# EAGLE library part MILLI-GRID-24 (library con-molex)
Milli-Grid Pin Header 2.00mm (.079") Pitch
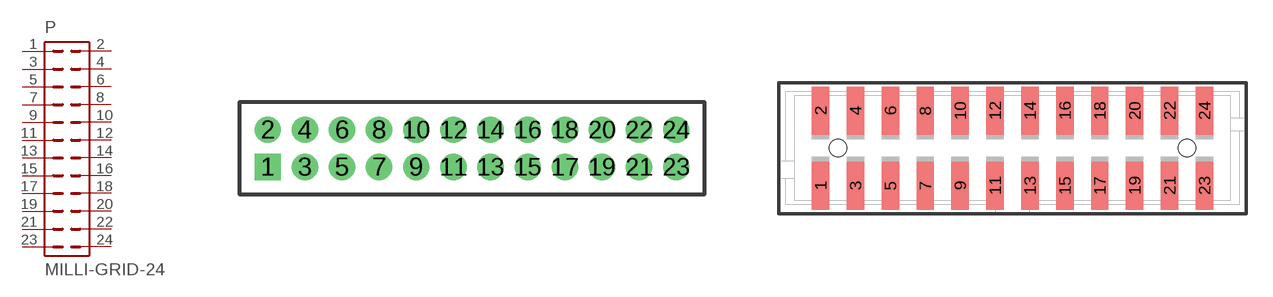
[diagram p60: symbol with the pads of 87758-24; footprints 87758-24, 87832-24]

Designator prefix P

## MILLI-GRID-24-87758  [87758-24]
1  1  pas
2  2  pas
3  3  pas
4  4  pas
5  5  pas
6  6  pas
7  7  pas
8  8  pas
9  9  pas
10  10  pas
11  11  pas
12  12  pas
13  13  pas
14  14  pas
15  15  pas
16  16  pas
17  17  pas
18  18  pas
19  19  pas
20  20  pas
21  21  pas
22  22  pas
23  23  pas
24  24  pas

## MILLI-GRID-24-87832  [87832-24]
Pads as for 87758-24

## MILLI-GRID-24-87759  [87759-24]
Pads as for 87758-24

## MILLI-GRID-24-79109  [79109-24]
Pads as for 87758-24

## MILLI-GRID-24-79107  [79107-24]
Pads as for 87758-24

## MILLI-GRID-24-87264  [87264-24]
Pads as for 87758-24

## MILLI-GRID-24-87368  [87368-24]
Pads as for 87758-24

## Footprint 87758-24 (pad centres in mm)
PCB Pin Headers 2.00mm (.079") Pitch Milli-Grid Header, Vertical
drill 0.914 square: 1 -11,-1
drill 0.914: 2 -11,1; 3 -9,-1; 4 -9,1; 5 -7,-1; 6 -7,1; 7 -5,-1; 8 -5,1; 9 -3,-1; 10 -3,1; 11 -1,-1; 12 -1,1; 13 1,-1; 14 1,1; 15 3,-1; 16 3,1; 17 5,-1; 18 5,1; 19 7,-1; 20 7,1; 21 9,-1; 22 9,1; 23 11,-1; 24 11,1

## Footprint 87832-24 (pad centres in mm)
PCB Headers 2.00mm (.079") Pitch Milli-Grid Header, Vertical, Shrouded
smd 1 x 2.75: 1 -11,-2.15; 2 -11,2.15; 3 -9,-2.15; 4 -9,2.15; 5 -7,-2.15; 6 -7,2.15; 7 -5,-2.15; 8 -5,2.15; 9 -3,-2.15; 10 -3,2.15; 11 -1,-2.15; 12 -1,2.15; 13 1,-2.15; 14 1,2.15; 15 3,-2.15; 16 3,2.15; 17 5,-2.15; 18 5,2.15; 19 7,-2.15; 20 7,2.15; 21 9,-2.15; 22 9,2.15; 23 11,-2.15; 24 11,2.15
hole 1 at -10,0
hole 1 at 10,0

## Footprint 87759-24 (pad centres in mm)
PCB Pin Headers 2.00mm (.079") Pitch Milli-Grid Header, Vertical SMD
smd 1 x 2.75: 1 -11,-2.15; 2 -11,2.15; 3 -9,-2.15; 4 -9,2.15; 5 -7,-2.15; 6 -7,2.15; 7 -5,-2.15; 8 -5,2.15; 9 -3,-2.15; 10 -3,2.15; 11 -1,-2.15; 12 -1,2.15; 13 1,-2.15; 14 1,2.15; 15 3,-2.15; 16 3,2.15; 17 5,-2.15; 18 5,2.15; 19 7,-2.15; 20 7,2.15; 21 9,-2.15; 22 9,2.15; 23 11,-2.15; 24 11,2.15
hole 1 at -10,0
hole 1 at 10,0

## Footprint 79109-24 (pad centres in mm)
Board-to-Board Receptacal 2.00mm (.079") Pitch Milli-Grid Header, Vertical, Top/Bottom Entry Mates with: 87758, 87759, 87760, 87831, 87832, 87833
smd 1.12 x 1.83: 1 -11,-2.65; 2 -11,2.65; 3 -9,-2.65; 4 -9,2.65; 5 -7,-2.65; 6 -7,2.65; 7 -5,-2.65; 8 -5,2.65; 9 -3,-2.65; 10 -3,2.65; 11 -1,-2.65; 12 -1,2.65; 13 1,-2.65; 14 1,2.65; 15 3,-2.65; 16 3,2.65; 17 5,-2.65; 18 5,2.65; 19 7,-2.65; 20 7,2.65; 21 9,-2.65; 22 9,2.65; 23 11,-2.65; 24 11,2.65
hole 0.914 at -10,0
hole 0.914 at -11,1
hole 0.914 at -11,-1
hole 0.914 at -9,-1
hole 0.914 at -9,1
hole 0.914 at -7,-1
hole 0.914 at -7,1
hole 0.914 at 10,0
hole 0.914 at -5,1
hole 0.914 at -5,-1
hole 0.914 at -3,1
hole 0.914 at -3,-1
hole 0.914 at -1,1
hole 0.914 at -1,-1
hole 0.914 at 1,1
hole 0.914 at 1,-1
hole 0.914 at 3,-1
hole 0.914 at 3,1
hole 0.914 at 5,1
hole 0.914 at 5,-1
hole 0.914 at 7,1
hole 0.914 at 7,-1
hole 0.914 at 9,1
hole 0.914 at 9,-1
hole 0.914 at 11,-1
hole 0.914 at 11,1

## Footprint 79107-24 (pad centres in mm)
Board-To-Board Receptacal 2.00mm (.079") Pitch Milli-Grid Header, Vertical, Through-Hole Mates with: 87759, 87762, 87758, 87760
drill 0.914 square: 1 -11,-1
drill 0.914: 2 -11,1; 3 -9,-1; 4 -9,1; 5 -7,-1; 6 -7,1; 7 -5,-1; 8 -5,1; 9 -3,-1; 10 -3,1; 11 -1,-1; 12 -1,1; 13 1,-1; 14 1,1; 15 3,-1; 16 3,1; 17 5,-1; 18 5,1; 19 7,-1; 20 7,1; 21 9,-1; 22 9,1; 23 11,-1; 24 11,1

## Footprint 87264-24 (pad centres in mm)
Board-To-Board Receptacal 2.00mm (.079") Pitch Milli-Grid Header, Side Entry Mates with 2mm(.079") Mill-Grid Header
drill 0.914 square: 1 -11,-2.25
drill 0.914: 2 -11,2.25; 3 -9,-2.25; 4 -9,2.25; 5 -7,-2.25; 6 -7,2.25; 7 -5,-2.25; 8 -5,2.25; 9 -3,-2.25; 10 -3,2.25; 11 -1,-2.25; 12 -1,2.25; 13 1,-2.25; 14 1,2.25; 15 3,-2.25; 16 3,2.25; 17 5,-2.25; 18 5,2.25; 19 7,-2.25; 20 7,2.25; 21 9,-2.25; 22 9,2.25; 23 11,-2.25; 24 11,2.25

## Footprint 87368-24 (pad centres in mm)
Board-To-Board Receptacal 2.00mm (.079") Pitch Milli-Grid Header, Side Entry SMD Mates with 2mm(.079") Mill-Grid Header
smd 1 x 2.8: 1 -11,-3.1; 2 -11,3.1; 3 -9,-3.1; 4 -9,3.1; 5 -7,-3.1; 6 -7,3.1; 7 -5,-3.1; 8 -5,3.1; 9 -3,-3.1; 10 -3,3.1; 11 -1,-3.1; 12 -1,3.1; 13 1,-3.1; 14 1,3.1; 15 3,-3.1; 16 3,3.1; 17 5,-3.1; 18 5,3.1; 19 7,-3.1; 20 7,3.1; 21 9,-3.1; 22 9,3.1; 23 11,-3.1; 24 11,3.1
hole 0.914 at -11,0
hole 0.914 at 0,0